# Altium schematic symbol library base-32-bit.SCHLIB: 38 symbols
Pins are listed as number, name and electrical type; pins without a type are passive.

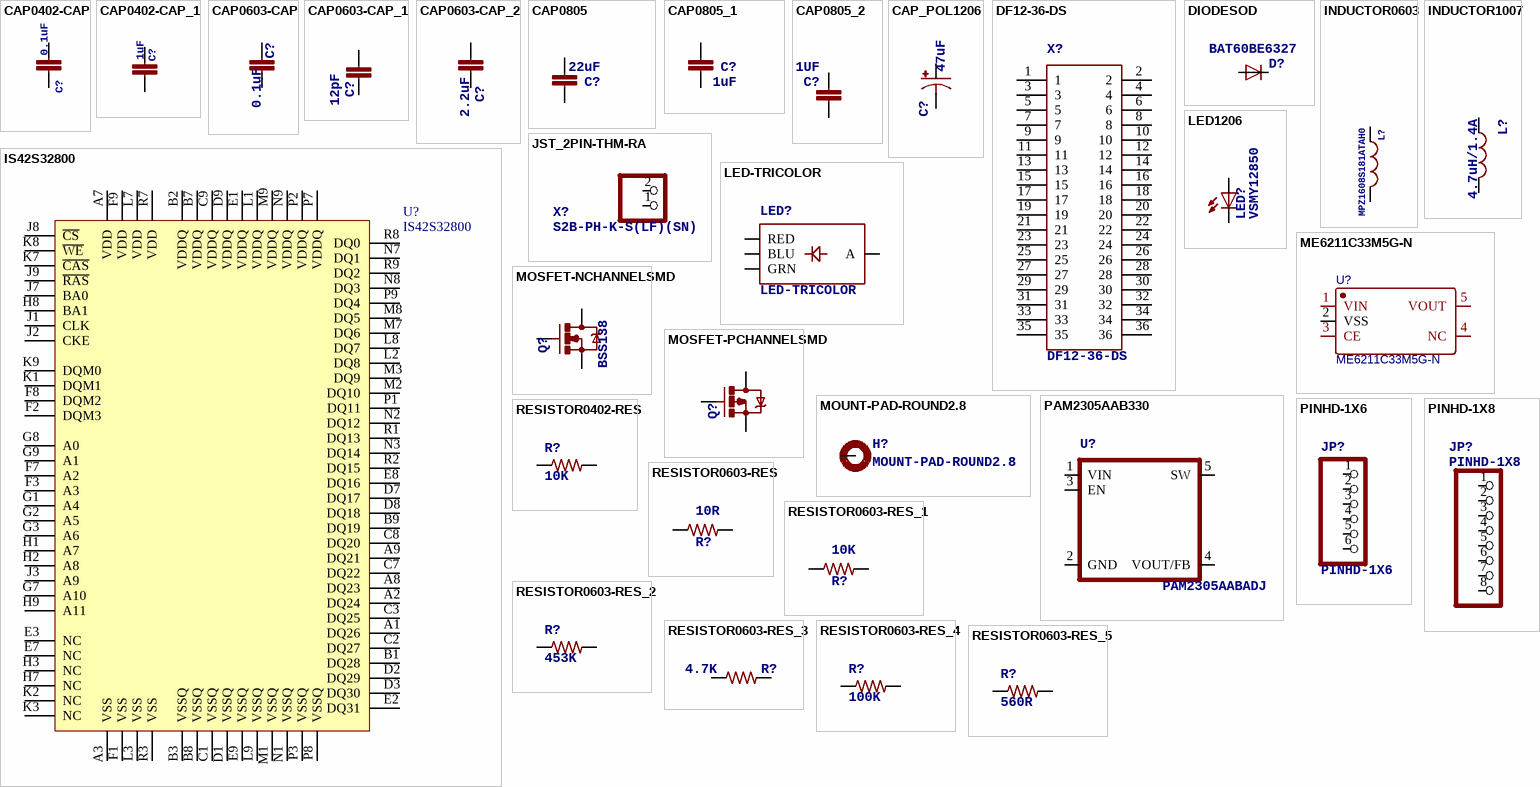
[diagram p0: symbols CAP0402-CAP to RESISTOR0603-RES_5]

## CAP0402-CAP
designator C?, comment 0.1uF
CapacitorStandard 0603 ceramic capacitor, and 0.1" leaded capacitor.
footprint 0402-CAP
footprint C0402
pins: 1, 2

## CAP0402-CAP_1
designator C?, comment 1uF
CapacitorStandard 0603 ceramic capacitor, and 0.1" leaded capacitor.
footprint 0402-CAP
footprint C0402
pins: 1, 2

## CAP0603-CAP
designator C?, comment 0.1uF
CapacitorStandard 0603 ceramic capacitor, and 0.1" leaded capacitor.
footprint 0603-CAP
pins: 1, 2

## CAP0603-CAP_1
designator C?, comment 12pF
CapacitorStandard 0603 ceramic capacitor, and 0.1" leaded capacitor.
footprint 0603-CAP
pins: 1, 2

## CAP0603-CAP_2
designator C?, comment 2.2uF
CapacitorStandard 0603 ceramic capacitor, and 0.1" leaded capacitor.
footprint C0402
footprint 0603-CAP
pins: 1, 2

## CAP0805
designator C?, comment 22uF
CapacitorStandard 0603 ceramic capacitor, and 0.1" leaded capacitor.
footprint 0805
pins: 1, 2

## CAP0805_1
designator C?, comment 1uF
CapacitorStandard 0603 ceramic capacitor, and 0.1" leaded capacitor.
footprint 0805
pins: 1, 2

## CAP0805_2
designator C?, comment 0.1UF
CapacitorStandard 0603 ceramic capacitor, and 0.1" leaded capacitor.
footprint C0603
pins: 1, 2

## CAP_POL1206
designator C?, comment 47uF
Capacitor PolarizedThese are standard SMD and PTH capacitors. Normally 10uF, 47uF, and 100uF in electrolytic and tantalum varieties. Always verify the external diameter of the through hole cap, it varies with capacity, voltage, and manufacturer. The EIA devices should be standard.
footprint EIA3216
pins: A +, C -

## DF12-36-DS
designator X?
footprint DF12-36-DS
pins: 1, 2, 3, 4, 5, 6, 7, 8, 9, 10, 11, 12, 13, 14, 15, 16, 17, 18, 19, 20, 21, 22, 23, 24, 25, 26, 27, 28, 29, 30, 31, 32, 33, 34, 35, 36

## DIODESOD
designator D?, comment BAT60BE6327
DiodeThese are standard reverse protection diodes and small signal diodes. SMA package can handle up to about 1A. SOD-323 can handle about 200mA. What the SOD-323 package when ordering, there are some mfgs out there that are 5-pin packages.
footprint SOD-323
pins: 1 C, 2 A

## INDUCTOR0603
designator L?, comment MPZ1608S181ATAH0
InductorsBasic Inductor/Choke - 0603 and 1206. Footprints are not proven and vary greatly between part numbers.
footprint 0603
pins: 1, 2

## INDUCTOR1007
designator L?, comment 4.7uH/1.4A
InductorsBasic Inductor/Choke - 0603 and 1206. Footprints are not proven and vary greatly between part numbers.
footprint 1007
pins: 1, 2

## IS42S32800
designator U?
footprint BGA-90-8000X13000DE
pins: A1 DQ26, A2 DQ24, A3 VSS, A7 VDD, A8 DQ23, A9 DQ21, B1 DQ28, B2 VDDQ, B3 VSSQ, B7 VDDQ, B8 VSSQ, B9 DQ19, C1 VSSQ, C2 DQ27, C3 DQ25, C7 DQ22, C8 DQ20, C9 VDDQ, D1 VSSQ, D2 DQ29, D3 DQ30, D7 DQ17, D8 DQ18, D9 VDDQ, E1 VDDQ, E2 DQ31, E3 NC, E7 NC, E8 DQ16, E9 VSSQ, F1 VSS, F2 DQM3, F3 A3, F7 A2, F8 DQM2, F9 VDD, G1 A4, G2 A5, G3 A6, G7 A10, G8 A0, G9 A1, H1 A7, H2 A8, H3 NC, H7 NC, H8 BA1, H9 A11, J1 CLK, J2 CKE, J3 A9, J7 BA0, J8 ~{CS}, J9 ~{RAS}, K1 DQM1, K2 NC, K3 NC, K7 ~{CAS}, K8 ~{WE}, K9 DQM0, L1 VDDQ, L2 DQ8, L3 VSS, L7 VDD, L8 DQ7, L9 VSSQ, M1 VSSQ, M2 DQ10, M3 DQ9, M7 DQ6, M8 DQ5, M9 VDDQ, N1 VSSQ, N2 DQ12, N3 DQ14, N7 DQ1, N8 DQ3, N9 VDDQ, P1 DQ11, P2 VDDQ, P3 VSSQ, P7 VDDQ, P8 VSSQ, P9 DQ4, R1 DQ13, R2 DQ15, R3 VSS, R7 VDD, R8 DQ0, R9 DQ2

## JST_2PIN-THM-RA
designator X?, comment S2B-PH-K-S(LF)(SN)
JST 2-Pin Connectors of various flavors SMT-RA (S2B-PH-SM4) 4UConnector #17311  SMT  (B2B-PH-SM4)  THM-RA (S2B-PH)  THM  (B2B-PH)
footprint JST-PH-2-THM-RA
pins: 1 2, 2 1

## LED1206
designator LED?, comment VSMY12850
LEDsStandard schematic elements and footprints for 5mm, 3mm, 1206, and 0603 sized LEDs. 5mm - Spark Fun Electronics SKU : COM-00529 (and others)
footprint LED-1206
pins: A, C

## LED-TRICOLOR
designator LED?
Tri-Color LED SMDProven layout and schematic for triple color LED in SMD package - common anode. Spark Fun Electronics SKU : COM-07844
footprint LED-TRICOLOR-SMD
pins: A, B BLU, G GRN, R RED

## ME6211C33M5G-N
designator U?
BOM_Manufacturer: MICRONE; SMT Type: Extend; BOM_Supplier: LCSC; BOM_Manufacturer Part: ME6211C33M5G-N; image: //image.lceda.cn/szlcsc/C82942.jpg; BOM_Supplier Part: C82942; BOM_LCSC Assembly: Yes; spicePre: L; spiceSymbolName: ME6211C33M5G-N
footprint SOT-23-5
pins: 1 VIN, 2 VSS, 3 CE, 4 NC, 5 VOUT

## MOSFET-NCHANNELSMD
designator Q?, comment BSS138
footprint SOT23-3
pins: 1 G, 2 S, 3 D

## MOSFET-PCHANNELSMD
designator Q?, comment Si2301BDS  (value not drawn)
footprint SOT23-3
pins: 1 G, 2 S, 3 D

## MOUNT-PAD-ROUND2.8
designator H?
MOUNTING PAD, round
footprint 2,8-PAD
pins: B2,8 MOUNT

## PAM2305AAB330
designator U?, comment PAM2305AABADJ
footprint TSOT25
pins: 1 VIN (power), 2 GND (power), 3 EN, 4 VOUT/FB, 5 SW (power)

## PINHD-1X6
designator JP?
PIN HEADER
footprint 1X06
pins: 1, 2, 3, 4, 5, 6

## PINHD-1X8
designator JP?
PIN HEADER
footprint 1X08
pins: 1, 2, 3, 4, 5, 6, 7, 8

## RESISTOR0402-RES
designator R?, comment 10K
ResistorBasic schematic elements and footprints for 0603, 1206, and PTH resistors.
footprint 0402-RES
footprint C0603
footprint R0402
pins: 1, 2

## RESISTOR0603-RES
designator R?, comment 10R
ResistorBasic schematic elements and footprints for 0603, 1206, and PTH resistors.
footprint 0603-RES
footprint R0603
pins: 1, 2

## RESISTOR0603-RES_1
designator R?, comment 10K
ResistorBasic schematic elements and footprints for 0603, 1206, and PTH resistors.
footprint 0603-RES
footprint R0603
pins: 1, 2

## RESISTOR0603-RES_2
designator R?, comment 453K
ResistorBasic schematic elements and footprints for 0603, 1206, and PTH resistors.
footprint 0603-RES
footprint R0603
pins: 1, 2

## RESISTOR0603-RES_3
designator R?, comment 4.7K
ResistorBasic schematic elements and footprints for 0603, 1206, and PTH resistors.
footprint 0603-RES
footprint R0603
pins: 1, 2

## RESISTOR0603-RES_4
designator R?, comment 100K
ResistorBasic schematic elements and footprints for 0603, 1206, and PTH resistors.
footprint 0603-RES
footprint R0603
pins: 1, 2

## RESISTOR0603-RES_5
designator R?, comment 560R
ResistorBasic schematic elements and footprints for 0603, 1206, and PTH resistors.
footprint 0603-RES
footprint R0603
pins: 1, 2

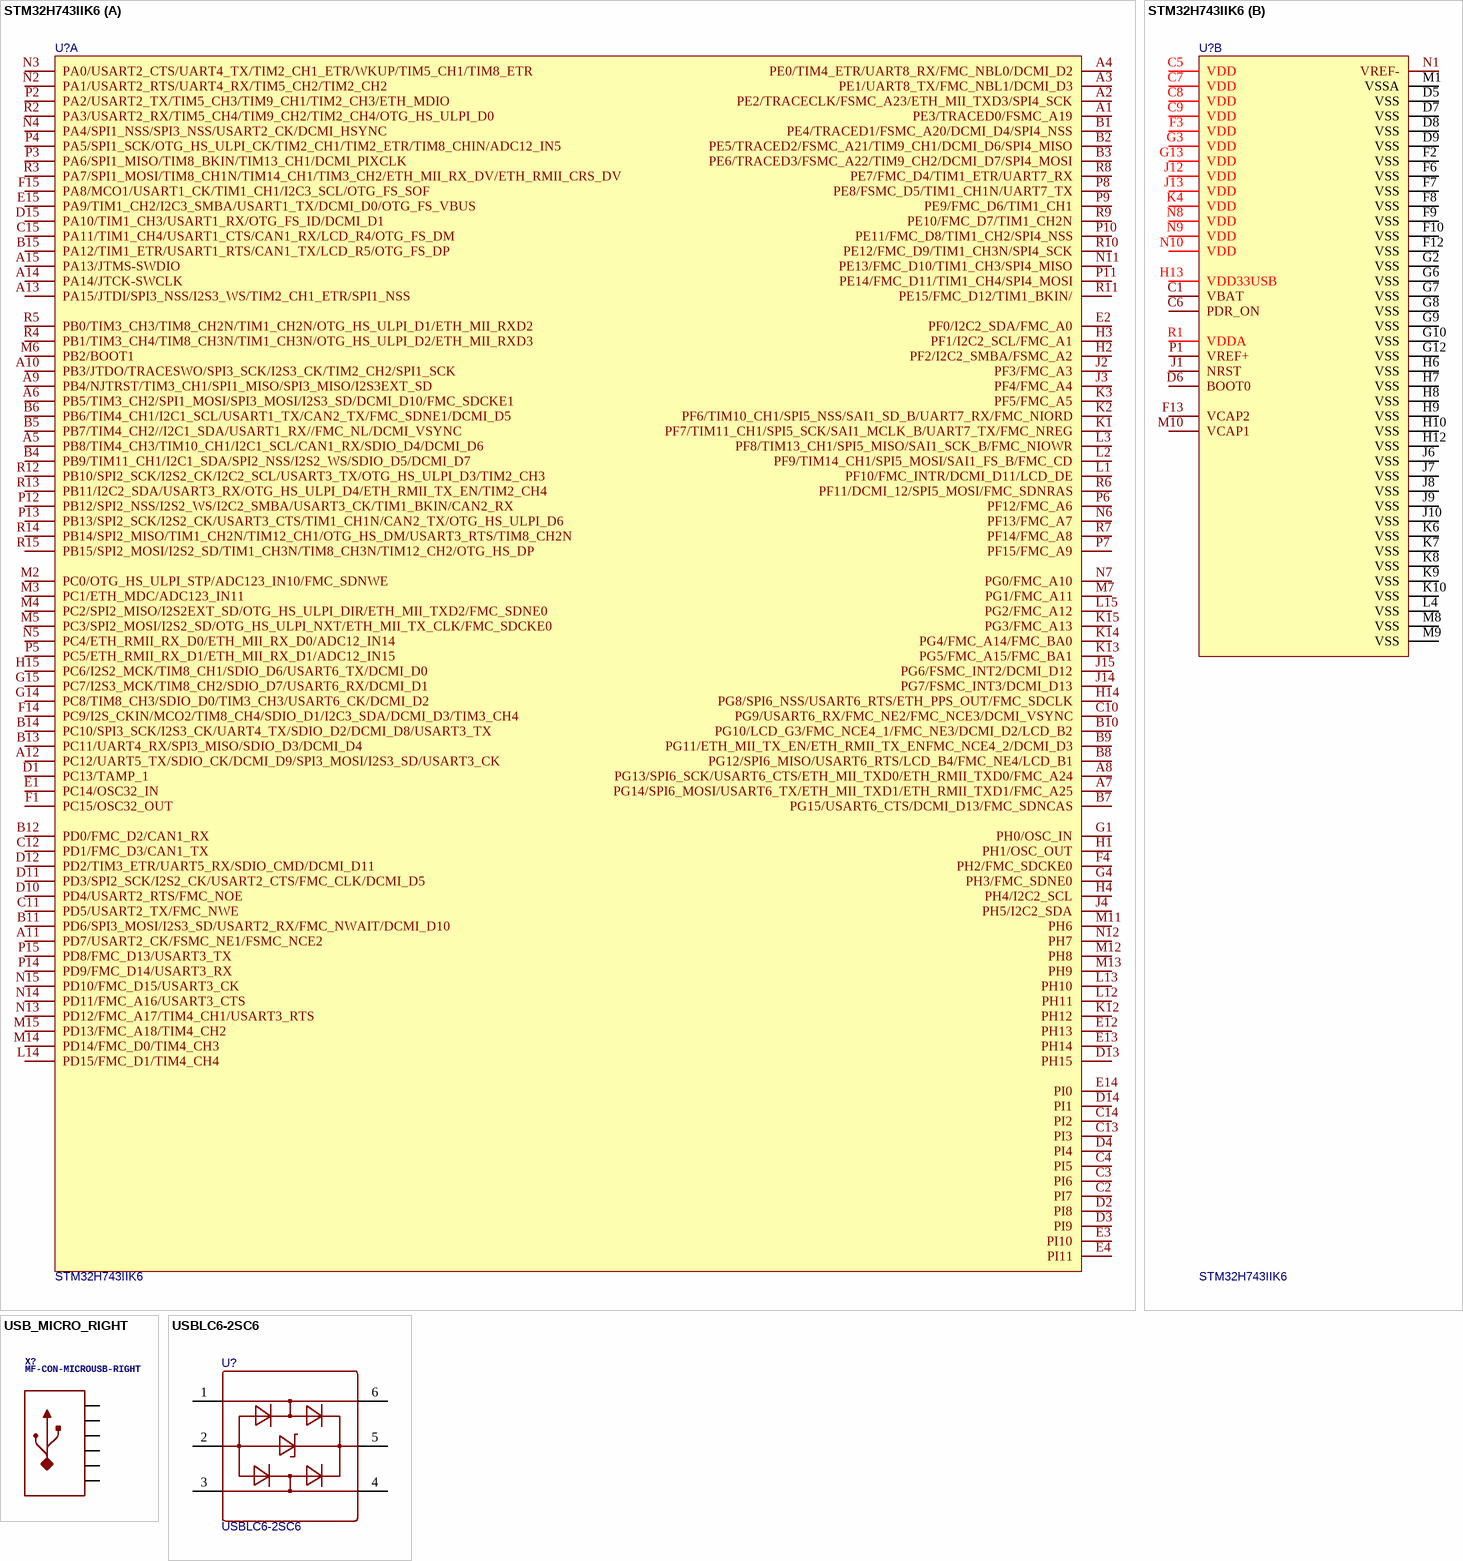
[diagram p1: symbols STM32H743IIK6 to USBLC6-2SC6]

## STM32H743IIK6
designator U?
BOM_Manufacturer: STMicroelectronics; subpart_no: 2; Contributor: LCSC; BOM_Supplier: LCSC; BOM_Supplier Part: C129442; BOM_Manufacturer Part: STM32H743IIK6; spicePre: U; spiceSymbolName: STM32H743IIK6
footprint UFBGA-201_L10.0-W10.0-P0.65-TL_STM32H743IIK6
part A pins: A1 PE3/TRACED0/FSMC_A19, A2 PE2/TRACECLK/FSMC_A23/ETH_MII_TXD3/SPI4_SCK, A3 PE1/UART8_TX/FMC_NBL1/DCMI_D3, A4 PE0/TIM4_ETR/UART8_RX/FMC_NBL0/DCMI_D2, A5 PB8/TIM4_CH3/TIM10_CH1/I2C1_SCL/CAN1_RX/SDIO_D4/DCMI_D6, A6 PB5/TIM3_CH2/SPI1_MOSI/SPI3_MOSI/I2S3_SD/DCMI_D10/FMC_SDCKE1, A7 PG14/SPI6_MOSI/USART6_TX/ETH_MII_TXD1/ETH_RMII_TXD1/FMC_A25, A8 PG13/SPI6_SCK/USART6_CTS/ETH_MII_TXD0/ETH_RMII_TXD0/FMC_A24, A9 PB4/NJTRST/TIM3_CH1/SPI1_MISO/SPI3_MISO/I2S3EXT_SD, A10 PB3/JTDO/TRACESWO/SPI3_SCK/I2S3_CK/TIM2_CH2/SPI1_SCK, A11 PD7/USART2_CK/FSMC_NE1/FSMC_NCE2, A12 PC12/UART5_TX/SDIO_CK/DCMI_D9/SPI3_MOSI/I2S3_SD/USART3_CK, A13 PA15/JTDI/SPI3_NSS/I2S3_WS/TIM2_CH1_ETR/SPI1_NSS, A14 PA14/JTCK-SWCLK, A15 PA13/JTMS-SWDIO, B1 PE4/TRACED1/FSMC_A20/DCMI_D4/SPI4_NSS, B2 PE5/TRACED2/FSMC_A21/TIM9_CH1/DCMI_D6/SPI4_MISO, B3 PE6/TRACED3/FSMC_A22/TIM9_CH2/DCMI_D7/SPI4_MOSI, B4 PB9/TIM11_CH1/I2C1_SDA/SPI2_NSS/I2S2_WS/SDIO_D5/DCMI_D7, B5 PB7/TIM4_CH2//I2C1_SDA/USART1_RX//FMC_NL/DCMI_VSYNC, B6 PB6/TIM4_CH1/I2C1_SCL/USART1_TX/CAN2_TX/FMC_SDNE1/DCMI_D5, B7 PG15/USART6_CTS/DCMI_D13/FMC_SDNCAS, B8 PG12/SPI6_MISO/USART6_RTS/LCD_B4/FMC_NE4/LCD_B1, B9 PG11/ETH_MII_TX_EN/ETH_RMII_TX_ENFMC_NCE4_2/DCMI_D3, B10 PG10/LCD_G3/FMC_NCE4_1/FMC_NE3/DCMI_D2/LCD_B2, B11 PD6/SPI3_MOSI/I2S3_SD/USART2_RX/FMC_NWAIT/DCMI_D10, B12 PD0/FMC_D2/CAN1_RX, B13 PC11/UART4_RX/SPI3_MISO/SDIO_D3/DCMI_D4, B14 PC10/SPI3_SCK/I2S3_CK/UART4_TX/SDIO_D2/DCMI_D8/USART3_TX, B15 PA12/TIM1_ETR/USART1_RTS/CAN1_TX/LCD_R5/OTG_FS_DP, C2 PI7, C3 PI6, C4 PI5, C10 PG9/USART6_RX/FMC_NE2/FMC_NCE3/DCMI_VSYNC, C11 PD5/USART2_TX/FMC_NWE, C12 PD1/FMC_D3/CAN1_TX, C13 PI3, C14 PI2, C15 PA11/TIM1_CH4/USART1_CTS/CAN1_RX/LCD_R4/OTG_FS_DM, D1 PC13/TAMP_1, D2 PI8, D3 PI9, D4 PI4, D10 PD4/USART2_RTS/FMC_NOE, D11 PD3/SPI2_SCK/I2S2_CK/USART2_CTS/FMC_CLK/DCMI_D5, D12 PD2/TIM3_ETR/UART5_RX/SDIO_CMD/DCMI_D11, D13 PH15, D14 PI1, D15 PA10/TIM1_CH3/USART1_RX/OTG_FS_ID/DCMI_D1, E1 PC14/OSC32_IN, E2 PF0/I2C2_SDA/FMC_A0, E3 PI10, E4 PI11, E12 PH13, E13 PH14, E14 PI0, E15 PA9/TIM1_CH2/I2C3_SMBA/USART1_TX/DCMI_D0/OTG_FS_VBUS, F1 PC15/OSC32_OUT, F4 PH2/FMC_SDCKE0, F14 PC9/I2S_CKIN/MCO2/TIM8_CH4/SDIO_D1/I2C3_SDA/DCMI_D3/TIM3_CH4, F15 PA8/MCO1/USART1_CK/TIM1_CH1/I2C3_SCL/OTG_FS_SOF, G1 PH0/OSC_IN, G4 PH3/FMC_SDNE0, G14 PC8/TIM8_CH3/SDIO_D0/TIM3_CH3/USART6_CK/DCMI_D2, G15 PC7/I2S3_MCK/TIM8_CH2/SDIO_D7/USART6_RX/DCMI_D1, H1 PH1/OSC_OUT, H2 PF2/I2C2_SMBA/FSMC_A2, H3 PF1/I2C2_SCL/FMC_A1, H4 PH4/I2C2_SCL, H14 PG8/SPI6_NSS/USART6_RTS/ETH_PPS_OUT/FMC_SDCLK, H15 PC6/I2S2_MCK/TIM8_CH1/SDIO_D6/USART6_TX/DCMI_D0, J2 PF3/FMC_A3, J3 PF4/FMC_A4, J4 PH5/I2C2_SDA, J14 PG7/FSMC_INT3/DCMI_D13, J15 PG6/FSMC_INT2/DCMI_D12, K1 PF7/TIM11_CH1/SPI5_SCK/SAI1_MCLK_B/UART7_TX/FMC_NREG, K2 PF6/TIM10_CH1/SPI5_NSS/SAI1_SD_B/UART7_RX/FMC_NIORD, K3 PF5/FMC_A5, K12 PH12, K13 PG5/FMC_A15/FMC_BA1, K14 PG4/FMC_A14/FMC_BA0, K15 PG3/FMC_A13, L1 PF10/FMC_INTR/DCMI_D11/LCD_DE, L2 PF9/TIM14_CH1/SPI5_MOSI/SAI1_FS_B/FMC_CD, L3 PF8/TIM13_CH1/SPI5_MISO/SAI1_SCK_B/FMC_NIOWR, L12 PH11, L13 PH10, L14 PD15/FMC_D1/TIM4_CH4, L15 PG2/FMC_A12, M2 PC0/OTG_HS_ULPI_STP/ADC123_IN10/FMC_SDNWE, M3 PC1/ETH_MDC/ADC123_IN11, M4 PC2/SPI2_MISO/I2S2EXT_SD/OTG_HS_ULPI_DIR/ETH_MII_TXD2/FMC_SDNE0, M5 PC3/SPI2_MOSI/I2S2_SD/OTG_HS_ULPI_NXT/ETH_MII_TX_CLK/FMC_SDCKE0, M6 PB2/BOOT1, M7 PG1/FMC_A11, M11 PH6, M12 PH8, M13 PH9, M14 PD14/FMC_D0/TIM4_CH3, M15 PD13/FMC_A18/TIM4_CH2, N2 PA1/USART2_RTS/UART4_RX/TIM5_CH2/TIM2_CH2, N3 PA0/USART2_CTS/UART4_TX/TIM2_CH1_ETR/WKUP/TIM5_CH1/TIM8_ETR, N4 PA4/SPI1_NSS/SPI3_NSS/USART2_CK/DCMI_HSYNC, N5 PC4/ETH_RMII_RX_D0/ETH_MII_RX_D0/ADC12_IN14, N6 PF13/FMC_A7, N7 PG0/FMC_A10, N11 PE13/FMC_D10/TIM1_CH3/SPI4_MISO, N12 PH7, N13 PD12/FMC_A17/TIM4_CH1/USART3_RTS, N14 PD11/FMC_A16/USART3_CTS, N15 PD10/FMC_D15/USART3_CK, P2 PA2/USART2_TX/TIM5_CH3/TIM9_CH1/TIM2_CH3/ETH_MDIO, P3 PA6/SPI1_MISO/TIM8_BKIN/TIM13_CH1/DCMI_PIXCLK, P4 PA5/SPI1_SCK/OTG_HS_ULPI_CK/TIM2_CH1/TIM2_ETR/TIM8_CHIN/ADC12_IN5, P5 PC5/ETH_RMII_RX_D1/ETH_MII_RX_D1/ADC12_IN15, P6 PF12/FMC_A6, P7 PF15/FMC_A9, P8 PE8/FSMC_D5/TIM1_CH1N/UART7_TX, P9 PE9/FMC_D6/TIM1_CH1, P10 PE11/FMC_D8/TIM1_CH2/SPI4_NSS, P11 PE14/FMC_D11/TIM1_CH4/SPI4_MOSI, P12 PB12/SPI2_NSS/I2S2_WS/I2C2_SMBA/USART3_CK/TIM1_BKIN/CAN2_RX, P13 PB13/SPI2_SCK/I2S2_CK/USART3_CTS/TIM1_CH1N/CAN2_TX/OTG_HS_ULPI_D6, P14 PD9/FMC_D14/USART3_RX, P15 PD8/FMC_D13/USART3_TX, R2 PA3/USART2_RX/TIM5_CH4/TIM9_CH2/TIM2_CH4/OTG_HS_ULPI_D0, R3 PA7/SPI1_MOSI/TIM8_CH1N/TIM14_CH1/TIM3_CH2/ETH_MII_RX_DV/ETH_RMII_CRS_DV, R4 PB1/TIM3_CH4/TIM8_CH3N/TIM1_CH3N/OTG_HS_ULPI_D2/ETH_MII_RXD3, R5 PB0/TIM3_CH3/TIM8_CH2N/TIM1_CH2N/OTG_HS_ULPI_D1/ETH_MII_RXD2, R6 PF11/DCMI_12/SPI5_MOSI/FMC_SDNRAS, R7 PF14/FMC_A8, R8 PE7/FMC_D4/TIM1_ETR/UART7_RX, R9 PE10/FMC_D7/TIM1_CH2N, R10 PE12/FMC_D9/TIM1_CH3N/SPI4_SCK, R11 PE15/FMC_D12/TIM1_BKIN/, R12 PB10/SPI2_SCK/I2S2_CK/I2C2_SCL/USART3_TX/OTG_HS_ULPI_D3/TIM2_CH3, R13 PB11/I2C2_SDA/USART3_RX/OTG_HS_ULPI_D4/ETH_RMII_TX_EN/TIM2_CH4, R14 PB14/SPI2_MISO/TIM1_CH2N/TIM12_CH1/OTG_HS_DM/USART3_RTS/TIM8_CH2N, R15 PB15/SPI2_MOSI/I2S2_SD/TIM1_CH3N/TIM8_CH3N/TIM12_CH2/OTG_HS_DP
part B pins: C1 VBAT, C5 VDD, C6 PDR_ON, C7 VDD, C8 VDD, C9 VDD, D5 VSS, D6 BOOT0, D7 VSS, D8 VSS, D9 VSS, F2 VSS, F3 VDD, F6 VSS, F7 VSS, F8 VSS, F9 VSS, F10 VSS, F12 VSS, F13 VCAP2, G2 VSS, G3 VDD, G6 VSS, G7 VSS, G8 VSS, G9 VSS, G10 VSS, G12 VSS, G13 VDD, H6 VSS, H7 VSS, H8 VSS, H9 VSS, H10 VSS, H12 VSS, H13 VDD33USB, J1 NRST, J6 VSS, J7 VSS, J8 VSS, J9 VSS, J10 VSS, J12 VDD, J13 VDD, K4 VDD, K6 VSS, K7 VSS, K8 VSS, K9 VSS, K10 VSS, L4 VSS, M1 VSSA, M8 VSS, M9 VSS, M10 VCAP1, N1 VREF-, N8 VDD, N9 VDD, N10 VDD, P1 VREF+, R1 VDDA

## USB_MICRO_RIGHT
designator X?, comment MF-CON-MICROUSB-RIGHT
Library:  MF_Connectors Description: 5 Pin USB Connectors. SLD is the shield connection. Usually tied to ground through a small ferrite bead.
footprint MICROUSB-RIGHT
pins: 1 5V (power), 2 D-, 3 D+, 4 ID, 5 GND (power), S SLD

## USBLC6-2SC6
designator U?
BOM_Manufacturer: STMicroelectronics; SMT Type: Extend; BOM_Supplier: LCSC; BOM_Manufacturer Part: USBLC6-2SC6; image: //image.lceda.cn/szlcsc/C7519.jpg; BOM_Supplier Part: C7519; BOM_LCSC Assembly: Yes; spicePre: D; spiceSymbolName: USBLC6-2SC6
footprint SOT-23-6
pins: 1, 2, 3, 4, 5, 6

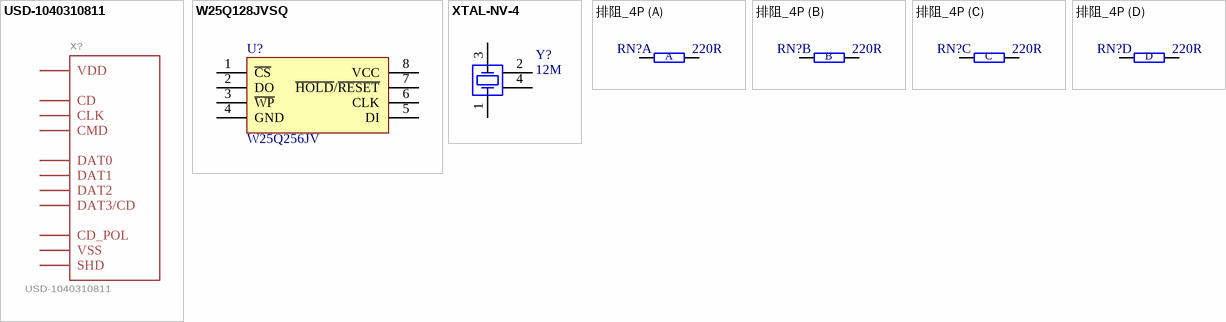
[diagram p2: symbols USD-1040310811 to 排阻_4P]

## USD-1040310811
designator X?
footprint 1040310811
pins: CD$1 CD, CD$2 CD_POL, G$1 SHD, G$2 SHD, G$3 SHD, G$4 SHD, P$1 DAT2, P$2 DAT3/CD, P$3 CMD, P$4 VDD, P$5 CLK, P$6 VSS, P$7 DAT0, P$8 DAT1

## W25Q128JVSQ
designator U?, comment W25Q256JV
footprint SOP8
footprint WSON-8_L8.0-W6.10-P1.27-BL-EP
pins: 1 ~{CS}, 2 DO, 3 ~{WP}, 4 GND, 5 DI, 6 CLK, 7 ~{HOLD}/~{RESET}, 8 VCC

## XTAL-NV-4
designator Y?, comment 12M
footprint OSC-SMD_4P-L2.5-W2.0-BL
pins: 1 OSC1, 2 OSC2, 3 OSC3, 4 OSC4

## 排阻_4P
designator RN?, comment 220R
footprint RCA-8P4R-0402 (2mm*1mm*0.45mm(长*宽*厚))
footprint RES-ARRAY-SMD_0603-8P-L3.2-W1.6-BL
part A pins: 1, 8
part B pins: 2, 7
part C pins: 3, 6
part D pins: 4, 5
part A text: A
part B text: B
part C text: C
part D text: D